# EAGLE library part RT8279 (library LARS_409_DC-DC)
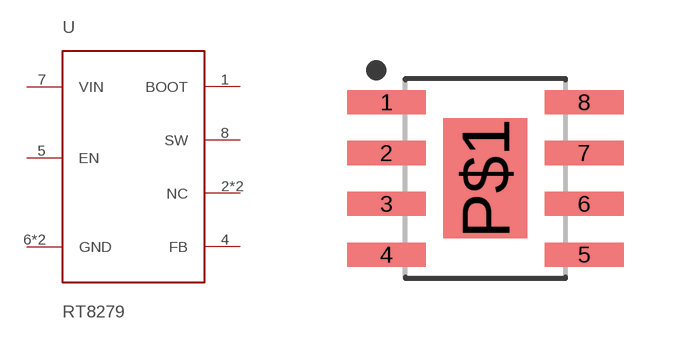
[diagram p7: symbol with the pads of SOIC127P599X155-8N; footprint SOIC127P599X155-8N]

Designator prefix U

## RT8279  [SOIC127P599X155-8N]
1  BOOT
2  NC
3  NC
4  FB
5  EN
6  GND
7  VIN
8  SW
P$1  GND

## Footprint SOIC127P599X155-8N (pad centres in mm)
8-SOIC, 1.27 mm pitch, 6.00 mm span, 4.90 X 3.90 X 1.55 mm body 8-pin SOIC package with 1.27 mm pitch, 6.00 mm span with body size 4.90 X 3.90 X 1.55 mm
smd 1.972 x 0.602: 1 -2.472,1.905; 2 -2.472,0.635; 3 -2.472,-0.635; 4 -2.472,-1.905; 5 2.472,-1.905; 6 2.472,-0.635; 7 2.472,0.635; 8 2.472,1.905
smd 2.1 x 3: P$1 0,0